# EAGLE library part T1M-20-XX-S-RA (library Audioptics_Connectors)
1MM RIGHT ANGLE TERMINAL STRIP, 20PINS.
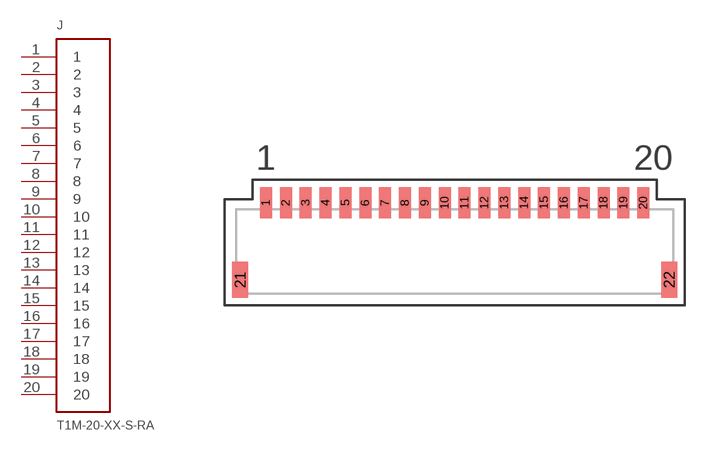
[diagram p0: symbol with the pads of T1M-20-XX-S-RA; footprint T1M-20-XX-S-RA]

Designator prefix J

## T1M-20-XX-S-RA  [T1M-20-XX-S-RA]
1  1
2  2
3  3
4  4
5  5
6  6
7  7
8  8
9  9
10  10
11  11
12  12
13  13
14  14
15  15
16  16
17  17
18  18
19  19
20  20

## Footprint T1M-20-XX-S-RA (pad centres in mm)
1MM RIGHT ANGLE TERMINAL STRIP, 20PINS.
smd 0.6 x 1.55: 1 -9.5,-0.775; 2 -8.5,-0.775; 3 -7.5,-0.775; 4 -6.5,-0.775; 5 -5.5,-0.775; 6 -4.5,-0.775; 7 -3.5,-0.775; 8 -2.5,-0.775; 9 -1.5,-0.775; 10 -0.5,-0.775; 11 0.5,-0.775; 12 1.5,-0.775; 13 2.5,-0.775; 14 3.5,-0.775; 15 4.5,-0.775; 16 5.5,-0.775; 17 6.5,-0.775; 18 7.5,-0.775; 19 8.5,-0.775; 20 9.5,-0.775
smd 0.8 x 1.8: 21 -10.8,-4.65; 22 10.8,-4.65